# Altium footprint library PCBLib.PcbLib: 168 footprints (part 9 of 11)
Each footprint in its own frame and in the unit in brackets; x right, y up, seen from the top. Pads: shape width x height; smd on the part's side, far side on the other; paste and mask are expansions set on the pad; w line width, h text height; cw(c..) or ccw(c..) is an arc to the next point about the centre after c.
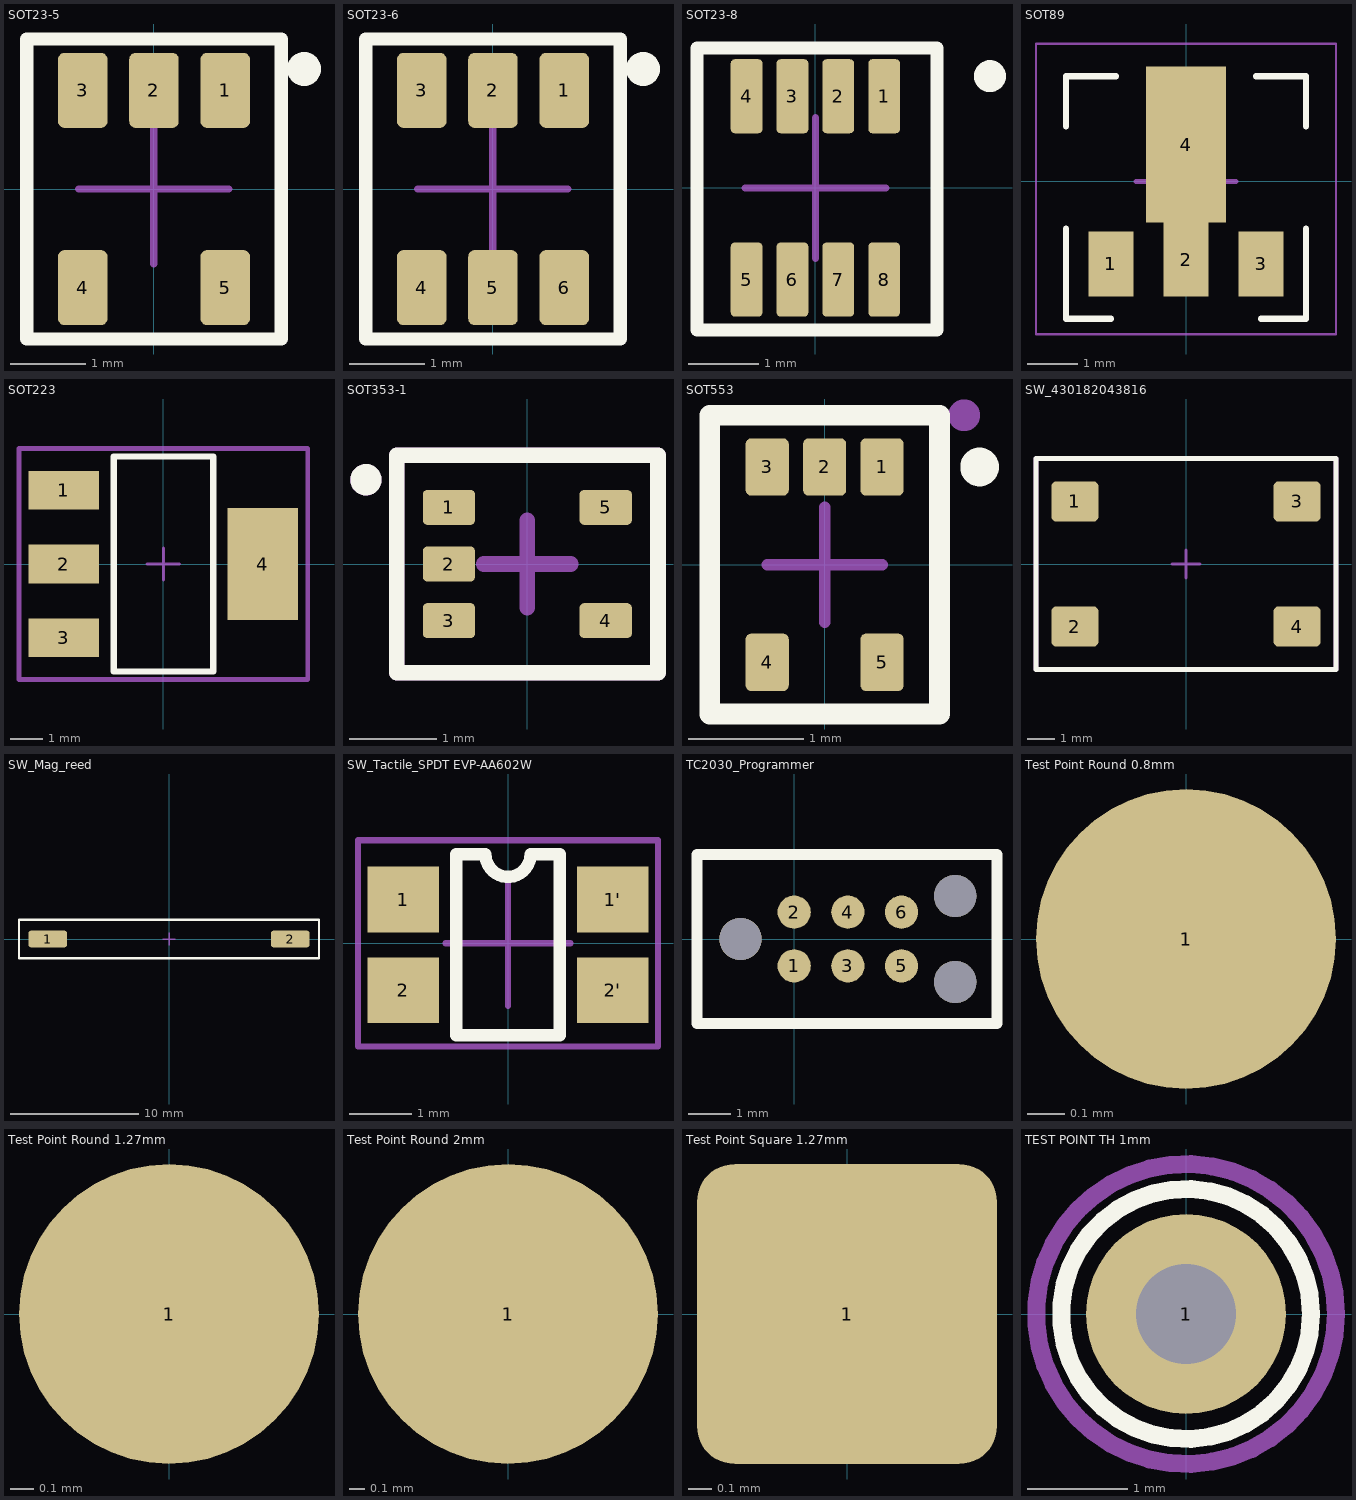
[diagram p8: the footprints below, top view; thin cyan lines are the x and y axes]

## SOT23-5 [mm]
pads (5):
  rrect25% 0.66x1 smd mask+0.05: 1(0.95,1.315) 2(0,1.315) 3(-0.95,1.315) 4(-0.95,-1.315) 5(0.95,-1.315)
Top Overlay:
  circle w0.254: c2,1.6 r0.1
  lines w0.18: -1.7,-2 1.7,-2 1.7,2 -1.7,2 -1.7,-2
Top Assembly:
  circle w0.254: c2,1.6 r0.068
  lines w0.1: -1.7,-2 -1.7,2 1.7,2 1.7,-2 -1.7,-2
Top Component Center:
  lines w0.1: -1,0 1,0 ; 0,-1 0,1
Top Courtyard:
  lines w0.05: -1.7,-2 -1.7,2 1.7,2 1.7,-2 -1.7,-2
Top Designator:
  text ".Designator" at -3.809,-0.254 h0.76
3D body "SOT-23-5_MC_MCH.step": height 1.45, standoff 0, extent -1.549,-1.624 1.549,1.576

## SOT23-6 [mm]
pads (6):
  rrect25% 0.66x1 smd mask+0.05: 1(0.95,1.315) 2(0,1.315) 3(-0.95,1.315) 4(-0.95,-1.315) 5(0,-1.315) 6(0.95,-1.315)
Top Overlay:
  circle w0.254: c2,1.6 r0.1
  lines w0.18: -1.7,-2 1.7,-2 1.7,2 -1.7,2 -1.7,-2
Top Assembly:
  circle w0.254: c2,1.6 r0.068
  lines w0.1: -1.7,-2 -1.7,2 1.7,2 1.7,-2 -1.7,-2
Top Component Center:
  lines w0.1: -1,0 1,0 ; 0,-1 0,1
Top Courtyard:
  lines w0.05: -1.7,-2 -1.7,2 1.7,2 1.7,-2 -1.7,-2
Top Designator:
  text ".Designator" at -3.809,-0.254 h0.76
3D body "DBV0006A.stp": height 1.2, standoff 0, extent -1.45,-1.4 1.45,1.4

## SOT23-8 [mm]
pads (8):
  rrect25% 0.45x1.05 smd mask+0.05: 1(0.975,1.3) 2(0.325,1.3) 3(-0.325,1.3) 4(-0.975,1.3) 5(-0.975,-1.3) 6(-0.325,-1.3) 7(0.325,-1.3) 8(0.975,-1.3)
Top Overlay:
  circle w0.254: c2.476,1.585 r0.1
  lines w0.18: -1.678,-2.015 1.726,-2.015 1.726,1.985 -1.678,1.985 -1.678,-2.015
Top Assembly:
  circle w0.254: c2.476,1.585 r0.068
  lines w0.1: -1.678,-2.015 -1.678,1.985 1.726,1.985 1.726,-2.015 -1.678,-2.015
Top Component Center:
  lines w0.1: -1,0 1,0 ; 0,-1 0,1
Top Courtyard:
  lines w0.05: -1.678,-2.015 -1.678,1.985 1.726,1.985 1.726,-2.015 -1.678,-2.015
Top Designator:
  text ".Designator" at -3.333,-0.269 h0.76
3D body "INA241B1IDDFR.stp": height 0.9, standoff 0, extent -1.45,-1.41 1.45,1.41

## SOT89 [mm]
pads (4):
  rect 0.9x1.3 smd: 1(-1.5,-1.65) 3(1.5,-1.65)
  rect 0.9x1.475 smd: 2(0,-1.562)
  rect 1.6x3.125 smd: 4(0,0.737)
Top Overlay:
  lines w0.127: -2.4,-0.95 -2.4,-2.75 -1.5,-2.75 ; -2.4,1.1 -2.4,2.1 -1.4,2.1 ; 1.4,2.1 2.4,2.1 2.4,1.1 ; 1.5,-2.75 2.4,-2.75 2.4,-0.95
Top Assembly:
  lines w0.05: -3,-3.054 3,-3.054 3,2.75 -3,2.75 -3,-3.054
Top Component Center:
  lines w0.1: -1,0 1,0 ; 0,-1 0,1
Top Courtyard:
  lines w0.05: -3,-3.054 3,-3.054 3,2.75 -3,2.75 -3,-3.054
Top Designator:
  text ".Designator" at -3.809,-0.254 h0.76
3D body "MCP1804T-5002I_MB.STEP": height 1.6, standoff 0, extent -2.25,-2.217 2.25,1.878

## SOT223 [mm] "SOT223, 4-Leads, Body 6.50x7.00mm (avg), Pitch 2.30mm, IPC Medium Density"
height 1.8
pads (4):
  rect 2.2x1.2 smd: 1(-3.1,2.3) 2(-3.1,0) 3(-3.1,-2.3)
  rect 2.2x3.5 smd: 4(3.1,0)
Top Overlay:
  lines w0.2: -1.55,-3.35 1.55,-3.35 1.55,3.35 -1.55,3.35 -1.55,-3.35
Top Assembly:
  lines w0.15: -4.5,-3.6 4.5,-3.6 4.5,3.6 -4.5,3.6 -4.5,-3.6
Top Component Center:
  lines w0.1: -0.5,0 0.5,0 ; 0,-0.5 0,0.5
Top Courtyard:
  lines w0.05: -4.5,-3.6 4.5,-3.6 4.5,3.6 -4.5,3.6 -4.5,-3.6
Top Designator:
  text ".Designator" at -0.254,3.809 h0.76
3D body "AZ1117IH-3.3TRG1.STEP": height 1.65, standoff 0, extent -3.5,-3.25 3.5,3.25

## SOT353-1 [mm] "TSSOP5"
pads (5):
  rrect25% 0.6x0.4 smd mask+0.05: 1(-0.9,0.65) 2(-0.9,0) 3(-0.9,-0.65) 4(0.9,-0.65) 5(0.9,0.65)
Top Overlay:
  circle w0.18: c-1.852,0.967 r0.09
  lines w0.18: -1.5,-1.25 1.5,-1.25 1.5,1.25 -1.5,1.25 -1.5,-1.25
Top Assembly:
  circle w0.18: c-1.854,0.966 r0.09
  lines w0.18: -1.5,-1.25 1.5,-1.25 1.5,1.25 -1.5,1.25 -1.5,-1.25
Top Component Center:
  lines w0.18: -0.5,0 0.5,0 ; 0,-0.5 0,0.5
Top Courtyard:
  lines w0.05: -1.5,-1.25 1.5,-1.25 1.5,1.25 -1.5,1.25 -1.5,-1.25
Top Designator:
  text ".Designator" at -3.809,-0.254 h0.76
3D body "74AHCT1G125GW_125.step": height 1.1, standoff 0, extent -1.05,-1 1.05,1

## SOT553 [mm]
pads (5):
  rrect25% 0.375x0.5 smd mask+0.05: 1(0.5,0.85) 2(0,0.85) 3(-0.5,0.85) 4(-0.5,-0.85) 5(0.5,-0.85)
Top Overlay:
  circle w0.254: c1.348,0.85 r0.041
  lines w0.18: -1,-1.3 -1,1.3 1,1.3 1,-1.3 -1,-1.3
Top Assembly:
  circle w0.254: c1.214,1.3 r0.011
  lines w0.1: -1,-1.3 1,-1.3 1,1.3 -1,1.3 -1,-1.3
Top Component Center:
  lines w0.1: -0.5,0 0.5,0 ; 0,-0.5 0,0.5
Top Courtyard:
  lines w0.05: -1,-1.3 1,-1.3 1,1.3 -1,1.3 -1,-1.3
Top Designator:
  text ".Designator" at -3.809,-0.254 h0.76
3D body "ESV_z90.stp": height 0.55, standoff 0, extent -0.8,-0.8 0.8,0.8

## SW_430182043816 [mm]
pads (4):
  rrect25% 1.7x1.45 smd mask+0.05: 1(-4,2.25) 2(-4,-2.25) 3(4,2.25) 4(4,-2.25)
Top Overlay:
  lines w0.18: -5.4,-3.8 5.4,-3.8 5.4,3.8 -5.4,3.8 -5.4,-3.8
Top Assembly:
  lines w0.18: -5.4,-3.8 5.4,-3.8 5.4,3.8 -5.4,3.8 -5.4,-3.8
Top Component Center:
  lines w0.1: -0.5,0 0.5,0 ; 0,-0.5 0,0.5
Top Courtyard:
  lines w0.05: -5.4,-3.8 5.4,-3.8 5.4,3.8 -5.4,3.8 -5.4,-3.8
Top Designator:
  text ".Designator" at -3.809,-0.254 h0.76
3D body "430182043816+(rev1).stp": height 4.3, standoff 0, extent -4.5,-3.1 4.5,3.1

## SW_Mag_reed [mm]
pads (2):
  rrect25% 3x1.3 smd mask+0.05: 1(-9.5,0) 2(9.5,0)
Top Overlay:
  lines w0.18: -11.75,-1.5 11.75,-1.5 11.75,1.5 -11.75,1.5 -11.75,-1.5
Top Assembly:
  lines w0.15: -11.75,-1.5 -11.75,1.5 11.75,1.5 11.75,-1.5 -11.75,-1.5
Top Component Center:
  lines w0.1: -0.5,0 0.5,0 ; 0,-0.5 0,0.5
Top Courtyard:
  lines w0.05: -11.75,-1.5 -11.75,1.5 11.75,1.5 11.75,-1.5 -11.75,-1.5
Top Designator:
  text ".Designator" at -3.809,-0.254 h0.76
3D body "MK15_SDX.step": height 3.76, standoff 0, extent -9.995,-1.245 9.995,1.245

## SW_Tactile_SPDT EVP-AA602W [mm]
pads (4):
  rect 1.15x1.05 smd mask+0.05: 1(-1.675,0.7) 1'(1.675,0.7) 2(-1.675,-0.75) 2'(1.675,-0.75)
Top Overlay:
  lines w0.2: -0.825,-1.475 -0.825,1.425 -0.362,1.425 ccw(c0,1.425) 0.362,1.425 0.825,1.425 0.825,-1.475 -0.825,-1.475
Top Assembly:
  lines w0.1: -2.4,-1.65 -2.4,1.65 2.4,1.65 2.4,-1.65 -2.4,-1.65
Top Component Center:
  lines w0.1: -1,0 1,0 ; 0,-1 0,1
Top Courtyard:
  lines w0.05: -2.4,-1.65 -2.4,1.65 2.4,1.65 2.4,-1.65 -2.4,-1.65
Top Designator:
  text ".Designator" at -3.809,-0.254 h0.76
3D body "EVPAA-002K_202K_402W_602W_802Q.STEP": height 1.7, standoff 0, extent -2.15,-1.575 2.15,1.534

## TC2030_Programmer [mm]
pads (9):
  round 0.787 smd: 1(0,-0.635) 2(0,0.635) 3(1.27,-0.635) 4(1.27,0.635) 5(2.54,-0.635) 6(2.54,0.635)
  round 1 hole 1 unplated mask+0: ""(-1.27,0) ""(3.81,-1.016) ""(3.81,1.016)
Top Overlay:
  lines w0.254: -2.3,-2 4.8,-2 4.8,2 -2.3,2 -2.3,0.2 -2.3,-2
Top Courtyard:
  lines w0.05: -2.3,-2 4.8,-2 4.8,2 -2.3,2 -2.3,-2

## Test Point Round 0.8mm [mm]
pads (1):
  round 0.8 smd mask+0.05: 1(0,0)

## Test Point Round 1.27mm [mm]
pads (1):
  round 1.27 smd mask+0.05: 1(0,0)

## Test Point Round 2mm [mm]
pads (1):
  round 2 smd mask+0.05: 1(0,0)

## Test Point Square 1.27mm [mm]
pads (1):
  rrect25% 1.27x1.27 smd mask+0.05: 1(0,0)

## TEST POINT TH 1mm [mm]
pads (1):
  round 2 hole 1 mask+0.05: 1(0,0)
Top Overlay:
  circle w0.18: c0,0 r1.25
Top Assembly:
  circle w0.18: c0,0 r1.5
Top Component Center:
  lines w0.15: -0.75,0 0,0 ; 0,-0.75 0,0 ; 0,0.75 0,0 ; 0.75,0 0,0
Top Courtyard:
  circle w0.05: c0,0 r1.5
Top Designator:
  text ".Designator" at -2.573,-0.254 h0.76
3D body "5002.step": height 4.57, standoff -3.05, extent -1.261,-1.27 1.261,1.27